# Altium schematic symbol library Schlib Varios.SchLib: 9 symbols
Pins are listed as number, name and electrical type; pins without a type are passive.

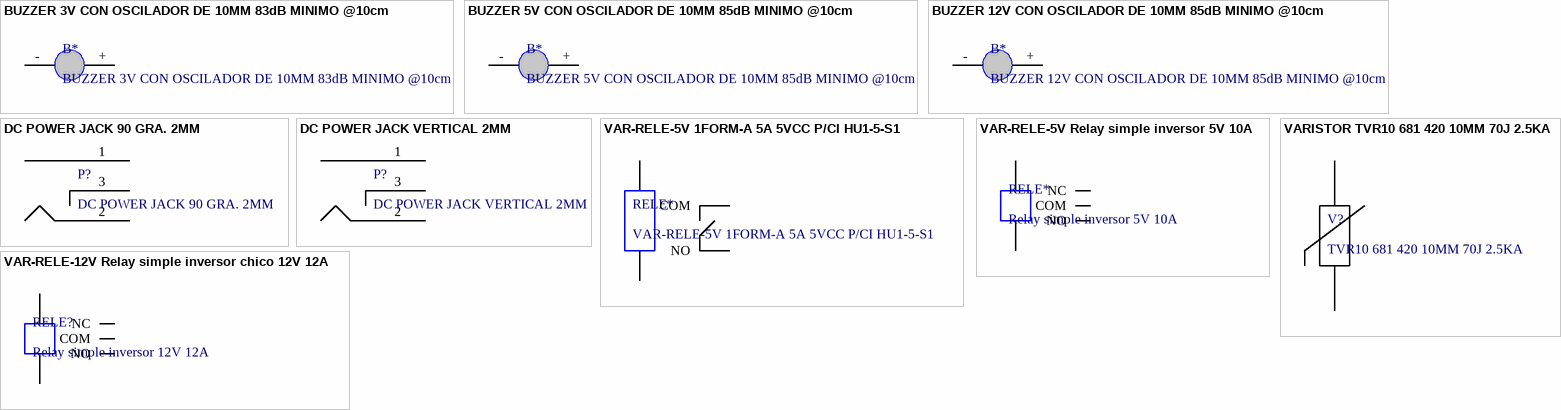
[diagram p0: symbols BUZZER 3V CON OSCILADOR DE 10MM 83dB MINIMO @10cm to VARISTOR TVR10 681 420 10MM 70J 2.5KA]

## BUZZER 3V CON OSCILADOR DE 10MM 83dB MINIMO @10cm
designator B*
COD. ELEMON: OS9209000
footprint VAR BUZZER 10 (BUZZER CON OSCILADOR DE 10MM)
pins: +, -

## BUZZER 5V CON OSCILADOR DE 10MM 85dB MINIMO @10cm
designator B*
COD. ELEMON: OS9209100
footprint VAR BUZZER 10 (BUZZER CON OSCILADOR DE 10MM)
pins: +, -

## BUZZER 12V CON OSCILADOR DE 10MM 85dB MINIMO @10cm
designator B*
COD. ELEMON: OS9209200
footprint VAR BUZZER 10 (BUZZER CON OSCILADOR DE 10MM)
pins: +, -

## DC POWER JACK 90 GRA. 2MM
designator P?
COD. ELEMON: MC6691355
footprint VAR-DC-JACK
pins: 1, 2, 3

## DC POWER JACK VERTICAL 2MM
designator P?
footprint VAR-DC-JACK - VERT (VAR-DC-JACK-VERT)
pins: 1, 2, 3

## VAR-RELE-5V 1FORM-A 5A 5VCC P/CI HU1-5-S1
designator RELE*
COD. ELEMON: RE4551340
footprint VAR-RELE-5V HU1-5-S1 (VAR-RELE-5V 1FORM-A 5A 5VCC P/CI HU1-5-S1)
pins: 1, 2, 3 COM, 4 NO

## VAR-RELE-5V Relay simple inversor 5V 10A
designator RELE*, comment Relay simple inversor 5V 10A
COD. SYC: NT73-05
footprint VAR-RELE-5V10A (Relay 5V 10A)
pins: 1, 2, 3 COM, 4 NO, 5 NC

## VAR-RELE-12V Relay simple inversor chico 12V 12A
designator RELE?, comment Relay simple inversor 12V 12A
footprint RELAY 12V 12A CHICO
pins: 1, 2, 3 COM, 4 NO, 5 NC

## VARISTOR TVR10 681 420 10MM 70J 2.5KA
designator V?, comment TVR10 681 420 10MM 70J 2.5KA
COD. ELEMON: VA3105321
footprint VARISTOR (TVR10 681 420V 10MM)
pins: 1, 2